# EAGLE library part 5-534237-8 (library 5-534237-8)
MOD II PCB Receptacle 2.54mm 10 way TE Connectivity AMPMODU Mod II Series 2.54mm Pitch 10 Way 1 Row Straight PCB Socket, Through Hole, Solder Termination Source: Datasheet <https://componentsearchengine.com/Datasheets/2/5-534237-8.pdf>
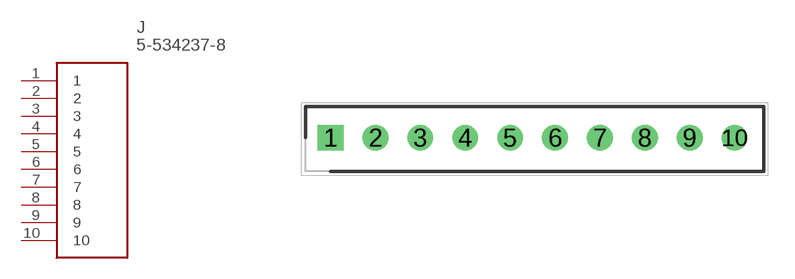
[diagram p0: symbol with the pads of SHDR10W77P0X254_1X10_2540X354X; footprint SHDR10W77P0X254_1X10_2540X354X]

Designator prefix J

## 5-534237-8 (Allied_Number: 70346596; Allied_Price-Stock: https://www.alliedelec.com/te-connectivity-5-534237-8/70346596/; Arrow_Part_Number: 5-534237-8; Arrow_Price-Stock: https://www.arrow.com/en/products/5-534237-8/te-connectivity; Description: MOD II PCB Receptacle 2.54mm 10 way TE Connectivity AMPMODU Mod II Series 2.54mm Pitch 10 Way 1 Row Straight PCB Socket, Through Hole, Solder Termination; Height: 8.77mm; Manufacturer_Name: TE Connectivity; Manufacturer_Part_Number: 5-534237-8; RS_Part_Number: 7973233P; RS_Price-Stock: http://uk.rs-online.com/web/p/products/7973233P)  [SHDR10W77P0X254_1X10_2540X354X]
1  1
2  2
3  3
4  4
5  5
6  6
7  7  pwr
8  8
9  9
10  10

## Footprint SHDR10W77P0X254_1X10_2540X354X (pad centres in mm)
5-534237-8
drill 0.95 pad 1.425 square: 1 0,0
drill 0.95 pad 1.425: 2 2.54,0; 3 5.08,0; 4 7.62,0; 5 10.16,0; 6 12.7,0; 7 15.24,0; 8 17.78,0; 9 20.32,0; 10 22.86,0